# Altium footprint library QFN50P700X700X100-49N-D.PcbLib: 1 footprints
Each footprint in its own frame and in the unit in brackets; x right, y up, seen from the top. Pads: shape width x height; smd on the part's side, far side on the other; paste and mask are expansions set on the pad; w line width, h text height; cw(c..) or ccw(c..) is an arc to the next point about the centre after c.
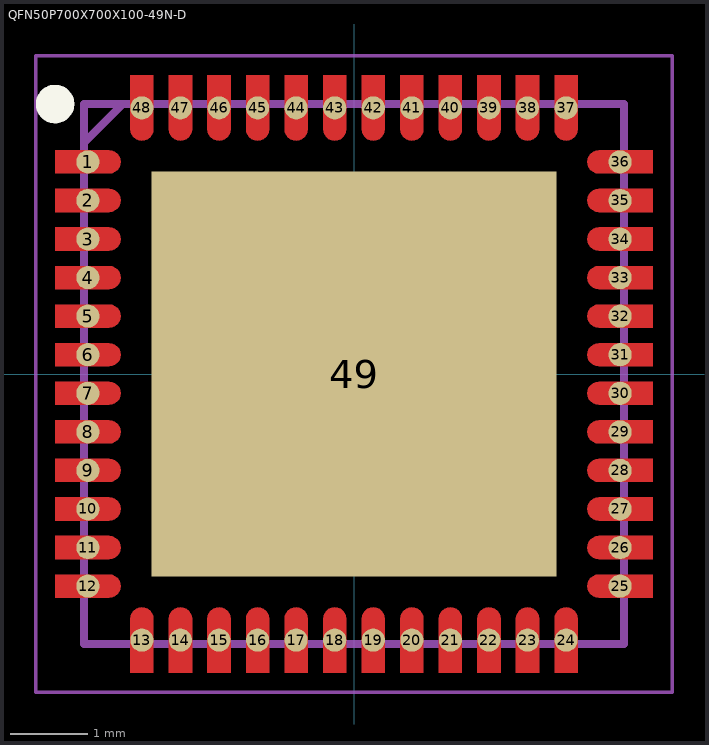
[diagram p0: the footprint, top view; thin cyan lines are the x and y axes]

## QFN50P700X700X100-49N-D [mm]
pads (49):
  round 0.3 smd: 1(-3.45,2.75) 2(-3.45,2.25) 3(-3.45,1.75) 4(-3.45,1.25) 5(-3.45,0.75) 6(-3.45,0.25) 7(-3.45,-0.25) 8(-3.45,-0.75) 9(-3.45,-1.25) 10(-3.45,-1.75) 11(-3.45,-2.25) 12(-3.45,-2.75) 13(-2.75,-3.45) 14(-2.25,-3.45) 15(-1.75,-3.45) 16(-1.25,-3.45) 17(-0.75,-3.45) 18(-0.25,-3.45) 19(0.25,-3.45) 20(0.75,-3.45) 21(1.25,-3.45) 22(1.75,-3.45) 23(2.25,-3.45) 24(2.75,-3.45) 25(3.45,-2.75) 26(3.45,-2.25) 27(3.45,-1.75) 28(3.45,-1.25) 29(3.45,-0.75) 30(3.45,-0.25) 31(3.45,0.25) 32(3.45,0.75) 33(3.45,1.25) 34(3.45,1.75) 35(3.45,2.25) 36(3.45,2.75) 37(2.75,3.45) 38(2.25,3.45) 39(1.75,3.45) 40(1.25,3.45) 41(0.75,3.45) 42(0.25,3.45) 43(-0.25,3.45) 44(-0.75,3.45) 45(-1.25,3.45) 46(-1.75,3.45) 47(-2.25,3.45) 48(-2.75,3.45)
  rect 5.25x5.25 smd: 49(0,0)
L1-Top Layer:
  region: -3.875,2.9 -3.175,2.9 -3.136,2.895 -3.1,2.88 -3.069,2.856 -3.045,2.825 -3.03,2.789 -3.025,2.75 -3.03,2.711 -3.045,2.675 -3.069,2.644 -3.1,2.62 -3.136,2.605 -3.175,2.6 -3.875,2.6
  region: -3.875,2.4 -3.175,2.4 -3.136,2.395 -3.1,2.38 -3.069,2.356 -3.045,2.325 -3.03,2.289 -3.025,2.25 -3.03,2.211 -3.045,2.175 -3.069,2.144 -3.1,2.12 -3.136,2.105 -3.175,2.1 -3.875,2.1
  region: -3.875,1.9 -3.175,1.9 -3.136,1.895 -3.1,1.88 -3.069,1.856 -3.045,1.825 -3.03,1.789 -3.025,1.75 -3.03,1.711 -3.045,1.675 -3.069,1.644 -3.1,1.62 -3.136,1.605 -3.175,1.6 -3.875,1.6
  region: -3.875,1.4 -3.175,1.4 -3.136,1.395 -3.1,1.38 -3.069,1.356 -3.045,1.325 -3.03,1.289 -3.025,1.25 -3.03,1.211 -3.045,1.175 -3.069,1.144 -3.1,1.12 -3.136,1.105 -3.175,1.1 -3.875,1.1
  region: -3.875,0.9 -3.175,0.9 -3.136,0.895 -3.1,0.88 -3.069,0.856 -3.045,0.825 -3.03,0.789 -3.025,0.75 -3.03,0.711 -3.045,0.675 -3.069,0.644 -3.1,0.62 -3.136,0.605 -3.175,0.6 -3.875,0.6
  region: -3.875,0.4 -3.175,0.4 -3.136,0.395 -3.1,0.38 -3.069,0.356 -3.045,0.325 -3.03,0.289 -3.025,0.25 -3.03,0.211 -3.045,0.175 -3.069,0.144 -3.1,0.12 -3.136,0.105 -3.175,0.1 -3.875,0.1
  region: -3.875,-0.1 -3.175,-0.1 -3.136,-0.105 -3.1,-0.12 -3.069,-0.144 -3.045,-0.175 -3.03,-0.211 -3.025,-0.25 -3.03,-0.289 -3.045,-0.325 -3.069,-0.356 -3.1,-0.38 -3.136,-0.395 -3.175,-0.4 -3.875,-0.4
  region: -3.875,-0.6 -3.175,-0.6 -3.136,-0.605 -3.1,-0.62 -3.069,-0.644 -3.045,-0.675 -3.03,-0.711 -3.025,-0.75 -3.03,-0.789 -3.045,-0.825 -3.069,-0.856 -3.1,-0.88 -3.136,-0.895 -3.175,-0.9 -3.875,-0.9
  region: -3.875,-1.1 -3.175,-1.1 -3.136,-1.105 -3.1,-1.12 -3.069,-1.144 -3.045,-1.175 -3.03,-1.211 -3.025,-1.25 -3.03,-1.289 -3.045,-1.325 -3.069,-1.356 -3.1,-1.38 -3.136,-1.395 -3.175,-1.4 -3.875,-1.4
  region: -3.875,-1.6 -3.175,-1.6 -3.136,-1.605 -3.1,-1.62 -3.069,-1.644 -3.045,-1.675 -3.03,-1.711 -3.025,-1.75 -3.03,-1.789 -3.045,-1.825 -3.069,-1.856 -3.1,-1.88 -3.136,-1.895 -3.175,-1.9 -3.875,-1.9
  region: -3.875,-2.1 -3.175,-2.1 -3.136,-2.105 -3.1,-2.12 -3.069,-2.144 -3.045,-2.175 -3.03,-2.211 -3.025,-2.25 -3.03,-2.289 -3.045,-2.325 -3.069,-2.356 -3.1,-2.38 -3.136,-2.395 -3.175,-2.4 -3.875,-2.4
  region: -3.875,-2.6 -3.175,-2.6 -3.136,-2.605 -3.1,-2.62 -3.069,-2.644 -3.045,-2.675 -3.03,-2.711 -3.025,-2.75 -3.03,-2.789 -3.045,-2.825 -3.069,-2.856 -3.1,-2.88 -3.136,-2.895 -3.175,-2.9 -3.875,-2.9
  region: -2.9,-3.875 -2.9,-3.175 -2.895,-3.136 -2.88,-3.1 -2.856,-3.069 -2.825,-3.045 -2.789,-3.03 -2.75,-3.025 -2.711,-3.03 -2.675,-3.045 -2.644,-3.069 -2.62,-3.1 -2.605,-3.136 -2.6,-3.175 -2.6,-3.875
  region: -2.4,-3.875 -2.4,-3.175 -2.395,-3.136 -2.38,-3.1 -2.356,-3.069 -2.325,-3.045 -2.289,-3.03 -2.25,-3.025 -2.211,-3.03 -2.175,-3.045 -2.144,-3.069 -2.12,-3.1 -2.105,-3.136 -2.1,-3.175 -2.1,-3.875
  region: -1.9,-3.875 -1.9,-3.175 -1.895,-3.136 -1.88,-3.1 -1.856,-3.069 -1.825,-3.045 -1.789,-3.03 -1.75,-3.025 -1.711,-3.03 -1.675,-3.045 -1.644,-3.069 -1.62,-3.1 -1.605,-3.136 -1.6,-3.175 -1.6,-3.875
  region: -1.4,-3.875 -1.4,-3.175 -1.395,-3.136 -1.38,-3.1 -1.356,-3.069 -1.325,-3.045 -1.289,-3.03 -1.25,-3.025 -1.211,-3.03 -1.175,-3.045 -1.144,-3.069 -1.12,-3.1 -1.105,-3.136 -1.1,-3.175 -1.1,-3.875
  region: -0.9,-3.875 -0.9,-3.175 -0.895,-3.136 -0.88,-3.1 -0.856,-3.069 -0.825,-3.045 -0.789,-3.03 -0.75,-3.025 -0.711,-3.03 -0.675,-3.045 -0.644,-3.069 -0.62,-3.1 -0.605,-3.136 -0.6,-3.175 -0.6,-3.875
  region: -0.4,-3.875 -0.4,-3.175 -0.395,-3.136 -0.38,-3.1 -0.356,-3.069 -0.325,-3.045 -0.289,-3.03 -0.25,-3.025 -0.211,-3.03 -0.175,-3.045 -0.144,-3.069 -0.12,-3.1 -0.105,-3.136 -0.1,-3.175 -0.1,-3.875
  region: 0.1,-3.875 0.1,-3.175 0.105,-3.136 0.12,-3.1 0.144,-3.069 0.175,-3.045 0.211,-3.03 0.25,-3.025 0.289,-3.03 0.325,-3.045 0.356,-3.069 0.38,-3.1 0.395,-3.136 0.4,-3.175 0.4,-3.875
  region: 0.6,-3.875 0.6,-3.175 0.605,-3.136 0.62,-3.1 0.644,-3.069 0.675,-3.045 0.711,-3.03 0.75,-3.025 0.789,-3.03 0.825,-3.045 0.856,-3.069 0.88,-3.1 0.895,-3.136 0.9,-3.175 0.9,-3.875
  region: 1.1,-3.875 1.1,-3.175 1.105,-3.136 1.12,-3.1 1.144,-3.069 1.175,-3.045 1.211,-3.03 1.25,-3.025 1.289,-3.03 1.325,-3.045 1.356,-3.069 1.38,-3.1 1.395,-3.136 1.4,-3.175 1.4,-3.875
  region: 1.6,-3.875 1.6,-3.175 1.605,-3.136 1.62,-3.1 1.644,-3.069 1.675,-3.045 1.711,-3.03 1.75,-3.025 1.789,-3.03 1.825,-3.045 1.856,-3.069 1.88,-3.1 1.895,-3.136 1.9,-3.175 1.9,-3.875
  region: 2.1,-3.875 2.1,-3.175 2.105,-3.136 2.12,-3.1 2.144,-3.069 2.175,-3.045 2.211,-3.03 2.25,-3.025 2.289,-3.03 2.325,-3.045 2.356,-3.069 2.38,-3.1 2.395,-3.136 2.4,-3.175 2.4,-3.875
  region: 2.6,-3.875 2.6,-3.175 2.605,-3.136 2.62,-3.1 2.644,-3.069 2.675,-3.045 2.711,-3.03 2.75,-3.025 2.789,-3.03 2.825,-3.045 2.856,-3.069 2.88,-3.1 2.895,-3.136 2.9,-3.175 2.9,-3.875
  region: 3.875,-2.9 3.175,-2.9 3.136,-2.895 3.1,-2.88 3.069,-2.856 3.045,-2.825 3.03,-2.789 3.025,-2.75 3.03,-2.711 3.045,-2.675 3.069,-2.644 3.1,-2.62 3.136,-2.605 3.175,-2.6 3.875,-2.6
  region: 3.875,-2.4 3.175,-2.4 3.136,-2.395 3.1,-2.38 3.069,-2.356 3.045,-2.325 3.03,-2.289 3.025,-2.25 3.03,-2.211 3.045,-2.175 3.069,-2.144 3.1,-2.12 3.136,-2.105 3.175,-2.1 3.875,-2.1
  region: 3.875,-1.9 3.175,-1.9 3.136,-1.895 3.1,-1.88 3.069,-1.856 3.045,-1.825 3.03,-1.789 3.025,-1.75 3.03,-1.711 3.045,-1.675 3.069,-1.644 3.1,-1.62 3.136,-1.605 3.175,-1.6 3.875,-1.6
  region: 3.875,-1.4 3.175,-1.4 3.136,-1.395 3.1,-1.38 3.069,-1.356 3.045,-1.325 3.03,-1.289 3.025,-1.25 3.03,-1.211 3.045,-1.175 3.069,-1.144 3.1,-1.12 3.136,-1.105 3.175,-1.1 3.875,-1.1
  region: 3.875,-0.9 3.175,-0.9 3.136,-0.895 3.1,-0.88 3.069,-0.856 3.045,-0.825 3.03,-0.789 3.025,-0.75 3.03,-0.711 3.045,-0.675 3.069,-0.644 3.1,-0.62 3.136,-0.605 3.175,-0.6 3.875,-0.6
  region: 3.875,-0.4 3.175,-0.4 3.136,-0.395 3.1,-0.38 3.069,-0.356 3.045,-0.325 3.03,-0.289 3.025,-0.25 3.03,-0.211 3.045,-0.175 3.069,-0.144 3.1,-0.12 3.136,-0.105 3.175,-0.1 3.875,-0.1
  region: 3.875,0.1 3.175,0.1 3.136,0.105 3.1,0.12 3.069,0.144 3.045,0.175 3.03,0.211 3.025,0.25 3.03,0.289 3.045,0.325 3.069,0.356 3.1,0.38 3.136,0.395 3.175,0.4 3.875,0.4
  region: 3.875,0.6 3.175,0.6 3.136,0.605 3.1,0.62 3.069,0.644 3.045,0.675 3.03,0.711 3.025,0.75 3.03,0.789 3.045,0.825 3.069,0.856 3.1,0.88 3.136,0.895 3.175,0.9 3.875,0.9
  region: 3.875,1.1 3.175,1.1 3.136,1.105 3.1,1.12 3.069,1.144 3.045,1.175 3.03,1.211 3.025,1.25 3.03,1.289 3.045,1.325 3.069,1.356 3.1,1.38 3.136,1.395 3.175,1.4 3.875,1.4
  region: 3.875,1.6 3.175,1.6 3.136,1.605 3.1,1.62 3.069,1.644 3.045,1.675 3.03,1.711 3.025,1.75 3.03,1.789 3.045,1.825 3.069,1.856 3.1,1.88 3.136,1.895 3.175,1.9 3.875,1.9
  region: 3.875,2.1 3.175,2.1 3.136,2.105 3.1,2.12 3.069,2.144 3.045,2.175 3.03,2.211 3.025,2.25 3.03,2.289 3.045,2.325 3.069,2.356 3.1,2.38 3.136,2.395 3.175,2.4 3.875,2.4
  region: 3.875,2.6 3.175,2.6 3.136,2.605 3.1,2.62 3.069,2.644 3.045,2.675 3.03,2.711 3.025,2.75 3.03,2.789 3.045,2.825 3.069,2.856 3.1,2.88 3.136,2.895 3.175,2.9 3.875,2.9
  region: 2.9,3.875 2.9,3.175 2.895,3.136 2.88,3.1 2.856,3.069 2.825,3.045 2.789,3.03 2.75,3.025 2.711,3.03 2.675,3.045 2.644,3.069 2.62,3.1 2.605,3.136 2.6,3.175 2.6,3.875
  region: 2.4,3.875 2.4,3.175 2.395,3.136 2.38,3.1 2.356,3.069 2.325,3.045 2.289,3.03 2.25,3.025 2.211,3.03 2.175,3.045 2.144,3.069 2.12,3.1 2.105,3.136 2.1,3.175 2.1,3.875
  region: 1.9,3.875 1.9,3.175 1.895,3.136 1.88,3.1 1.856,3.069 1.825,3.045 1.789,3.03 1.75,3.025 1.711,3.03 1.675,3.045 1.644,3.069 1.62,3.1 1.605,3.136 1.6,3.175 1.6,3.875
  region: 1.4,3.875 1.4,3.175 1.395,3.136 1.38,3.1 1.356,3.069 1.325,3.045 1.289,3.03 1.25,3.025 1.211,3.03 1.175,3.045 1.144,3.069 1.12,3.1 1.105,3.136 1.1,3.175 1.1,3.875
  region: 0.9,3.875 0.9,3.175 0.895,3.136 0.88,3.1 0.856,3.069 0.825,3.045 0.789,3.03 0.75,3.025 0.711,3.03 0.675,3.045 0.644,3.069 0.62,3.1 0.605,3.136 0.6,3.175 0.6,3.875
  region: 0.4,3.875 0.4,3.175 0.395,3.136 0.38,3.1 0.356,3.069 0.325,3.045 0.289,3.03 0.25,3.025 0.211,3.03 0.175,3.045 0.144,3.069 0.12,3.1 0.105,3.136 0.1,3.175 0.1,3.875
  region: -0.1,3.875 -0.1,3.175 -0.105,3.136 -0.12,3.1 -0.144,3.069 -0.175,3.045 -0.211,3.03 -0.25,3.025 -0.289,3.03 -0.325,3.045 -0.356,3.069 -0.38,3.1 -0.395,3.136 -0.4,3.175 -0.4,3.875
  region: -0.6,3.875 -0.6,3.175 -0.605,3.136 -0.62,3.1 -0.644,3.069 -0.675,3.045 -0.711,3.03 -0.75,3.025 -0.789,3.03 -0.825,3.045 -0.856,3.069 -0.88,3.1 -0.895,3.136 -0.9,3.175 -0.9,3.875
  region: -1.1,3.875 -1.1,3.175 -1.105,3.136 -1.12,3.1 -1.144,3.069 -1.175,3.045 -1.211,3.03 -1.25,3.025 -1.289,3.03 -1.325,3.045 -1.356,3.069 -1.38,3.1 -1.395,3.136 -1.4,3.175 -1.4,3.875
  region: -1.6,3.875 -1.6,3.175 -1.605,3.136 -1.62,3.1 -1.644,3.069 -1.675,3.045 -1.711,3.03 -1.75,3.025 -1.789,3.03 -1.825,3.045 -1.856,3.069 -1.88,3.1 -1.895,3.136 -1.9,3.175 -1.9,3.875
  region: -2.1,3.875 -2.1,3.175 -2.105,3.136 -2.12,3.1 -2.144,3.069 -2.175,3.045 -2.211,3.03 -2.25,3.025 -2.289,3.03 -2.325,3.045 -2.356,3.069 -2.38,3.1 -2.395,3.136 -2.4,3.175 -2.4,3.875
  region: -2.6,3.875 -2.6,3.175 -2.605,3.136 -2.62,3.1 -2.644,3.069 -2.675,3.045 -2.711,3.03 -2.75,3.025 -2.789,3.03 -2.825,3.045 -2.856,3.069 -2.88,3.1 -2.895,3.136 -2.9,3.175 -2.9,3.875
Top Overlay:
  circle w0.25: c-3.875,3.5 r0.125
Mechanical 15:
  lines w0.1: -3.5,3 -3,3.5 ; -3.5,-3.5 3.5,-3.5 3.5,3.5 -3.5,3.5 -3.5,-3.5
Mechanical 20:
  lines w0.05: -4.125,-4.125 4.125,-4.125 4.125,4.125 -4.125,4.125 -4.125,-4.125
3D body "DRV8323RHRGZT.stp": height 5.8, standoff -4.65, extent -10,-3.376 10,3.376